# EAGLE library part 18F14K50 (library custom)
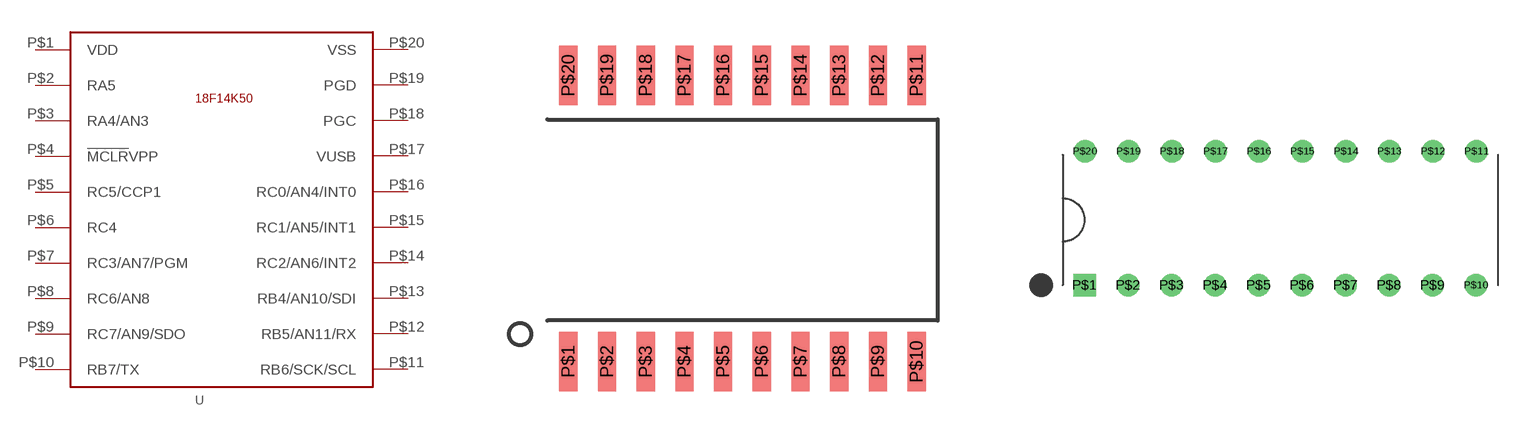
[diagram p10: symbol with the pads of SOIC_20_WIDE; footprints SOIC_20_WIDE, DIP20]

Designator prefix -

## 18F14K50  [SOIC_20_WIDE]
P$1  VDD
P$2  RA5
P$3  RA4/AN3
P$4  !MCLR!VPP
P$5  RC5/CCP1
P$6  RC4
P$7  RC3/AN7/PGM
P$8  RC6/AN8
P$9  RC7/AN9/SDO
P$10  RB7/TX
P$11  RB6/SCK/SCL
P$12  RB5/AN11/RX
P$13  RB4/AN10/SDI
P$14  RC2/AN6/INT2
P$15  RC1/AN5/INT1
P$16  RC0/AN4/INT0
P$17  VUSB
P$18  PGC
P$19  PGD
P$20  VSS

## 18F14K50DIP  [DIP20]
Pads as for SOIC_20_WIDE

## Footprint SOIC_20_WIDE (pad centres in mm)
smd 0.6 x 1.95: P$1 -5.715,-4.7; P$2 -4.445,-4.7; P$3 -3.175,-4.7; P$4 -1.905,-4.7; P$5 -0.635,-4.7; P$6 0.635,-4.7; P$7 1.905,-4.7; P$8 3.175,-4.7; P$9 4.445,-4.7; P$10 5.715,-4.7; P$11 5.715,4.7; P$12 4.445,4.7; P$13 3.175,4.7; P$14 1.905,4.7; P$15 0.635,4.7; P$16 -0.635,4.7; P$17 -1.905,4.7; P$18 -3.175,4.7; P$19 -4.445,4.7; P$20 -5.715,4.7

## Footprint DIP20 (pad centres in mm)
drill 0.8 square: P$1 -11.43,-3.81
drill 0.8 round: P$2 -8.89,-3.81; P$3 -6.35,-3.81; P$4 -3.81,-3.81; P$5 -1.27,-3.81; P$6 1.27,-3.81; P$7 3.81,-3.81; P$8 6.35,-3.81; P$9 8.89,-3.81; P$10 11.43,-3.81; P$11 11.455,4.013; P$12 8.915,4.013; P$13 6.375,4.013; P$14 3.835,4.013; P$15 1.295,4.013; P$16 -1.245,4.013; P$17 -3.785,4.013; P$18 -6.325,4.013; P$19 -8.865,4.013; P$20 -11.405,4.013